# Altium footprint library MCP73831T-2ACI_OT.PcbLib: 1 footprints
Each footprint in its own frame and in the unit in brackets; x right, y up, seen from the top. Pads: shape width x height; smd on the part's side, far side on the other; paste and mask are expansions set on the pad; w line width, h text height; cw(c..) or ccw(c..) is an arc to the next point about the centre after c.
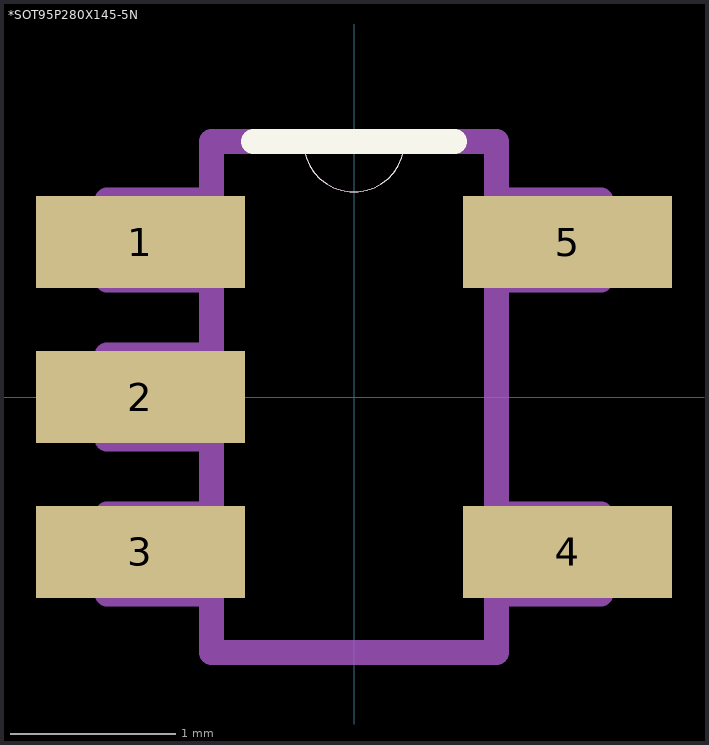
[diagram p0: the footprint, top view; thin cyan lines are the x and y axes]

## *SOT95P280X145-5N [mil]
pads (5):
  rect 50x22 smd: 1(-51,37) 2(-51,0) 3(-51,-37) 4(51,-37) 5(51,37)
Top Overlay:
  lines w0: -12,61 ccw(c0,61) 12,61
  lines w6: -24,61 -12,61 12,61 24,61
Mechanical 13:
  lines w0: -12,61 ccw(c0,61) 12,61 cw(c0,61) -12,61
  lines w6: -59,-47 -59,-28 ; -59,-47 -34,-47 ; -59,-47 -59,-28 ; -59,-47 -34,-47 ; -59,-28 -34,-28 ; -59,-28 -34,-28 ; -59,-10 -59,10 ; -59,-10 -34,-10 ; -59,-10 -59,10 ; -59,-10 -34,-10 ; -59,10 -34,10 ; -59,10 -34,10 ; -59,28 -59,47 ; -59,28 -34,28 ; -59,28 -59,47 ; -59,28 -34,28 ; -59,47 -34,47 ; -59,47 -34,47 ; -34,-61 34,-61 ; -34,-61 -34,-47 ; -34,-61 34,-61 ; -34,-61 -34,-47 ; -34,-47 -34,-28 ; -34,-47 -34,-28 ; -34,-28 -34,-10 ; -34,-28 -34,-10 ; -34,-10 -34,10 ; -34,-10 -34,10 ; -34,10 -34,28 ; -34,10 -34,28 ; -34,28 -34,47 ; -34,28 -34,47 ; -34,47 -34,61 ; -34,47 -34,61 ; -34,61 -12,61 ; -34,61 -12,61 ; -12,61 12,61 ; -12,61 12,61 ; 12,61 34,61 ; 12,61 34,61 ; 34,-61 34,-47 ; 34,-61 34,-47 ; 34,-47 34,-28 ; 34,-47 59,-47 ; 34,-47 34,-28 ; 34,-47 59,-47 ; 34,-28 34,28 ; 34,-28 59,-28 ; 34,-28 34,28 ; 34,-28 59,-28 ; 34,28 34,47 ; 34,28 59,28 ; 34,28 34,47 ; 34,28 59,28 ; 34,47 34,61 ; 34,47 59,47 ; 34,47 34,61 ; 34,47 59,47 ; 59,-47 59,-28 ; 59,-47 59,-28 ; 59,28 59,47 ; 59,28 59,47